# EAGLE library part CXA1145P (library 07-Retrocomputing)
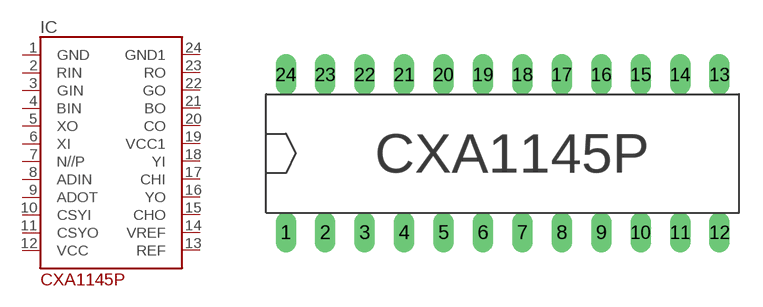
[diagram p15: symbol with the pads of CXA1145P; footprint CXA1145P]

Designator prefix IC

## CXA1145P  [CXA1145P]
1  GND
2  RIN
3  GIN
4  BIN
5  XO
6  XI
7  N//P
8  ADIN
9  ADOT
10  CSYI
11  CSYO
12  VCC
13  REF
14  VREF
15  CHO
16  YO
17  CHI
18  YI
19  VCC1
20  CO
21  BO
22  GO
23  RO
24  GND1

## Footprint CXA1145P (pad centres in mm)
drill 0.8 long: 1 -13.97,-5.08; 2 -11.43,-5.08; 3 -8.89,-5.08; 4 -6.35,-5.08; 5 -3.81,-5.08; 6 -1.27,-5.08; 7 1.27,-5.08; 8 3.81,-5.08; 9 6.35,-5.08; 10 8.89,-5.08; 11 11.43,-5.08; 12 13.97,-5.08; 13 13.97,5.08; 14 11.43,5.08; 15 8.89,5.08; 16 6.35,5.08; 17 3.81,5.08; 18 1.27,5.08; 19 -1.27,5.08; 20 -3.81,5.08; 21 -6.35,5.08; 22 -8.89,5.08; 23 -11.43,5.08; 24 -13.97,5.08